# EAGLE library part MAX4477 (library ds_ic_opa)
The MAX4475–MAX4478/MAX4488/MAX4489 wideband, low-noise, low-distortion operational amplifiers offer rail-to-rail outputs and single-supply operation down to 2.7V.
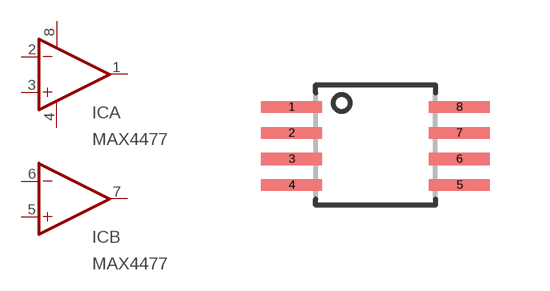
[diagram p4: symbol with the pads of SO8MINI; footprint SO8MINI]

Designator prefix IC; gates A=OPA_PWR B=OPA

## MAX4477  [SO8MINI]
1  A:OUT  out
2  A:-IN  in
3  A:+IN  in
4  A:V-  pwr
5  B:+IN  in
6  B:-IN  in
7  B:OUT  out
8  A:V+  pwr

## Footprint SO8MINI (pad centres in mm)
smd 1.524 x 0.3: 1 -2.05,1; 2 -2.05,0.35; 3 -2.05,-0.3; 4 -2.05,-0.95; 5 2.15,-0.95; 6 2.15,-0.3; 7 2.15,0.35; 8 2.15,1